# Altium integrated library Transceiver.IntLib: 2 symbols
Pins are listed as number, name and electrical type; pins without a type are passive.

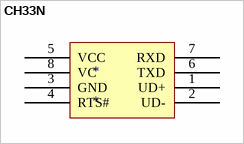
[diagram p0: symbol CH33N]

## CH33N
designator *
footprint SOP127P600X175-8N (SOP, 8-Leads, Body 4.90x3.90mm, Pitch 1.27mm, IPC Medium Density)
pins: 1 UD+, 2 UD-, 3 GND, 4 RTS#, 5 VCC, 6 TXD, 7 RXD, 8 VC


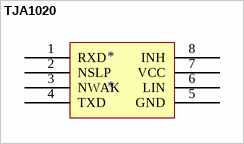
[diagram p1: symbol TJA1020]

## TJA1020
designator *
footprint SOP127P600X175-8N (SOP, 8-Leads, Body 4.90x3.90mm, Pitch 1.27mm, IPC Medium Density)
pins: 1 RXD, 2 NSLP, 3 NWAK, 4 TXD, 5 GND, 6 LIN, 7 VCC, 8 INH